# Altium footprint library 593D476X9025E2TE3.PcbLib: 3 footprints
Each footprint in its own frame and in the unit in brackets; x right, y up, seen from the top. Pads: shape width x height; smd on the part's side, far side on the other; paste and mask are expansions set on the pad; w line width, h text height; cw(c..) or ccw(c..) is an arc to the next point about the centre after c.
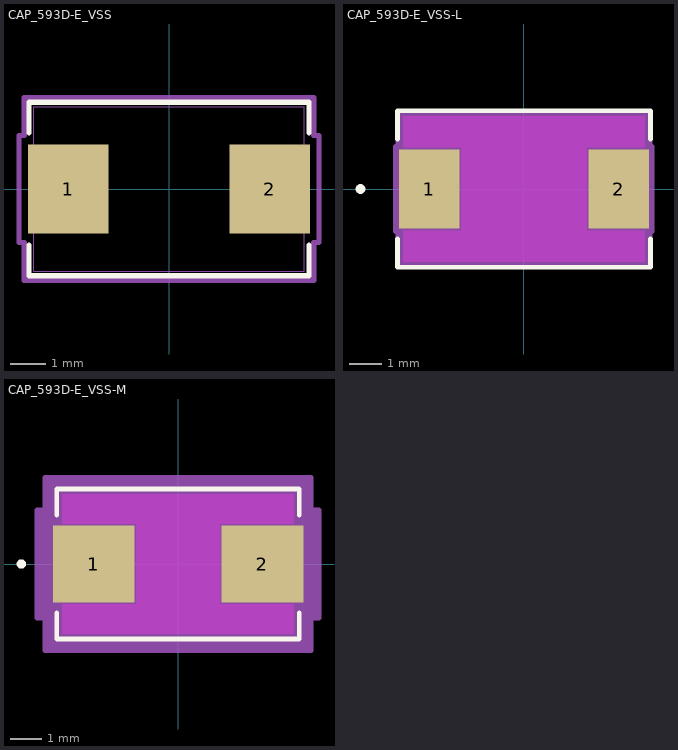
[diagram p0: the footprints below, top view; thin cyan lines are the x and y axes]

## CAP_593D-E_VSS [mil]
pads (2):
  rect 89x98 smd paste+0 mask+0: 1(-111,0) 2(111,0)
Top Overlay:
  lines w6: -154.5,-62.1 -154.5,-95.5 154.5,-95.5 154.5,-62.1 ; -154.5,62.1 -154.5,95.5 154.5,95.5 154.5,62.1
Mechanical 13:
  lines w1: -149.5,-90.5 149.5,-90.5 149.5,90.5 -149.5,90.5 -149.5,-90.5
Mechanical 15:
  lines w6: -165.5,-59 -165.5,59 -159.5,59 -159.5,100.5 159.5,100.5 159.5,59 165.5,59 165.5,-59 159.5,-59 159.5,-100.5 -159.5,-100.5 -159.5,-59 -165.5,-59
3D body "CAP_593D-E_VSS.step": height 170.98, standoff 0, extent -149.49,-90.51 149.49,90.51

## CAP_593D-E_VSS-L [mil]
pads (2):
  rect 74x96 smd paste+0 mask+0: 1(-115.5,0) 2(115.5,0)
Top Layer keep-out:
  region: -76.5,-51 -76.5,51 76.5,51 76.5,-51
  region: -147.5,51 -147.5,88.5 147.5,88.5 147.5,51
  region: -147.5,-88.5 -147.5,-51 147.5,-51 147.5,-88.5
Top Overlay:
  circle w6: c-199.5,0 r3
  lines w6: -154.5,-60.95 -154.5,-95.5 154.5,-95.5 154.5,-60.95 ; -154.5,60.95 -154.5,95.5 154.5,95.5 154.5,60.95
  text ".Designator" at -137.5,-25 h50
Keep-Out Layer:
  region: -76.5,-51 -76.5,51 76.5,51 76.5,-51
Mechanical 13:
  circle w1: c-139.5,0 r3
  lines w1: -149.5,-90.5 149.5,-90.5 149.5,90.5 -149.5,90.5 -149.5,-90.5
  text ".Designator" at -137.5,-25 h50
Mechanical 15:
  region: -153.5,-52 -156.5,-52 -156.5,52 -153.5,52 -153.5,94.5 153.5,94.5 153.5,52 156.5,52 156.5,-52 153.5,-52 153.5,-94.5 -153.5,-94.5
  lines w6: -156.5,-52 -156.5,52 -153.5,52 -153.5,94.5 153.5,94.5 153.5,52 156.5,52 156.5,-52 153.5,-52 153.5,-94.5 -153.5,-94.5 -153.5,-52 -156.5,-52
3D body "CAP_593D-E_VSS.step": height 170.98, standoff 0, extent -149.49,-90.51 149.49,90.51

## CAP_593D-E_VSS-M [mil]
pads (2):
  rect 104x98 smd paste+0 mask+0: 1(-107.5,0) 2(107.5,0)
Top Layer keep-out:
  region: -53.5,-51 -53.5,51 53.5,51 53.5,-51
  region: -147.5,51 -147.5,88.5 147.5,88.5 147.5,51
  region: -147.5,-88.5 -147.5,-51 147.5,-51 147.5,-88.5
Top Overlay:
  circle w6: c-199.5,0 r3
  lines w6: -154.5,-62.1 -154.5,-95.5 154.5,-95.5 154.5,-62.1 ; -154.5,62.1 -154.5,95.5 154.5,95.5 154.5,62.1
  text ".Designator" at -137.5,-25 h50
Keep-Out Layer:
  region: -53.5,-51 -53.5,51 53.5,51 53.5,-51
Mechanical 13:
  circle w1: c-139.5,0 r3
  lines w1: -149.5,-90.5 149.5,-90.5 149.5,90.5 -149.5,90.5 -149.5,-90.5
  text ".Designator" at -137.5,-25 h50
Mechanical 15:
  region: -169.5,-69 -179.5,-69 -179.5,69 -169.5,69 -169.5,110.5 169.5,110.5 169.5,69 179.5,69 179.5,-69 169.5,-69 169.5,-110.5 -169.5,-110.5
  lines w6: -179.5,-69 -179.5,69 -169.5,69 -169.5,110.5 169.5,110.5 169.5,69 179.5,69 179.5,-69 169.5,-69 169.5,-110.5 -169.5,-110.5 -169.5,-69 -179.5,-69
3D body "CAP_593D-E_VSS.step": height 170.98, standoff 0, extent -149.49,-90.51 149.49,90.51